# Altium footprint library PCB - SWITCHES - FP-PW0024A-MFG.PcbLib: 1 footprints
Each footprint in its own frame and in the unit in brackets; x right, y up, seen from the top. Pads: shape width x height; smd on the part's side, far side on the other; paste and mask are expansions set on the pad; w line width, h text height; cw(c..) or ccw(c..) is an arc to the next point about the centre after c.
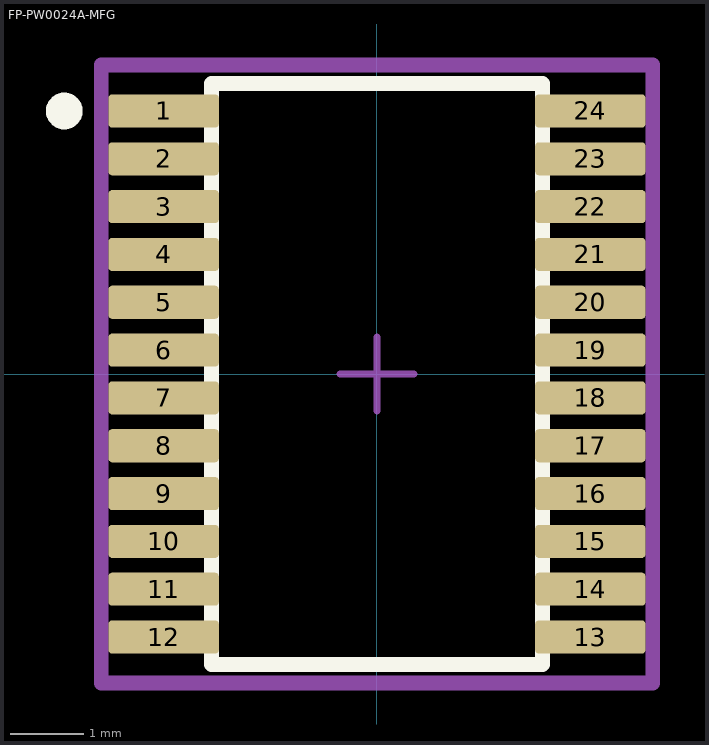
[diagram p0: the footprint, top view; thin cyan lines are the x and y axes]

## FP-PW0024A-MFG [mm]
pads (24):
  rrect22% 1.5x0.45 smd paste+0 mask+0: 1(-2.9,3.575) 2(-2.9,2.925) 3(-2.9,2.275) 4(-2.9,1.625) 5(-2.9,0.975) 6(-2.9,0.325) 7(-2.9,-0.325) 8(-2.9,-0.975) 9(-2.9,-1.625) 10(-2.9,-2.275) 11(-2.9,-2.925) 12(-2.9,-3.575) 13(2.9,-3.575) 14(2.9,-2.925) 15(2.9,-2.275) 16(2.9,-1.625) 17(2.9,-0.975) 18(2.9,-0.325) 19(2.9,0.325) 20(2.9,0.975) 21(2.9,1.625) 22(2.9,2.275) 23(2.9,2.925) 24(2.9,3.575)
Top Overlay:
  circle w0.25: c-4.25,3.575 r0.125
  lines w0.2: -2.25,-3.95 2.25,-3.95 2.25,3.95 -2.25,3.95 -2.25,-3.95
Top Assembly:
  lines w0.2: -3.75,-4.2 3.75,-4.2 3.75,4.2 -3.75,4.2 -3.75,-4.2
Top Courtyard:
  lines w0.2: -3.75,-4.2 3.75,-4.2 3.75,4.2 -3.75,4.2 -3.75,-4.2
Top Designator (Mech9):
  text ".Designator" at -2.032,4.633 h1
Top Component Center:
  lines w0.1: -0.5,0 0.5,0 ; 0,-0.5 0,0.5
3D body "IC_Texas_Instruments_TCA9548APWR_eec.STEP": height 0.25, standoff 0, extent -3.75,-4.2 3.75,4.2